# Altium footprint library EMI Gasket.PcbLib: 1 footprints
Each footprint in its own frame and in the unit in brackets; x right, y up, seen from the top. Pads: shape width x height; smd on the part's side, far side on the other; paste and mask are expansions set on the pad; w line width, h text height; cw(c..) or ccw(c..) is an arc to the next point about the centre after c.
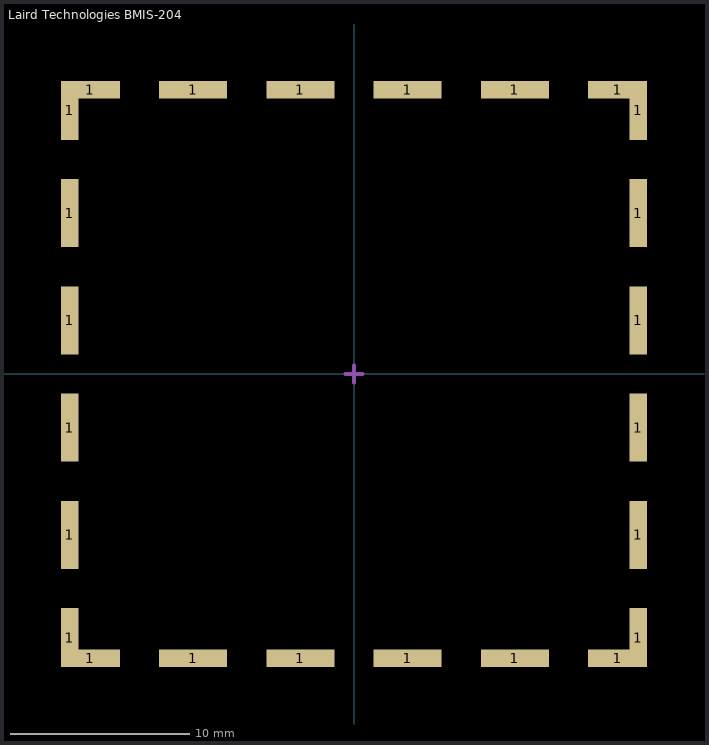
[diagram p0: the footprint, top view; thin cyan lines are the x and y axes]

## Laird Technologies BMIS-204 [mm]
height 6
pads (24):
  rect 1x3.3 smd: 1(-15.9,-14.75) 1(-15.9,14.75) 1(15.9,-14.75) 1(15.9,14.75)
  rect 1x3.8 smd: 1(-15.9,-9) 1(-15.9,-3) 1(-15.9,3) 1(-15.9,9) 1(15.9,-9) 1(15.9,-3) 1(15.9,3) 1(15.9,9)
  rect 3.3x1 smd: 1(-14.75,-15.9) 1(-14.75,15.9) 1(14.75,-15.9) 1(14.75,15.9)
  rect 3.8x1 smd: 1(-9,-15.9) 1(-9,15.9) 1(-3,-15.9) 1(-3,15.9) 1(3,-15.9) 1(3,15.9) 1(9,-15.9) 1(9,15.9)
Mechanical 15:
  lines w0.2: -0.5,0 0.5,0 ; 0,-0.5 0,0.5
3D body "Laird Technologies BMIS-204-F.step": height 6, standoff 0, extent -16,-16 16,16